# Altium schematic symbol library ADS1278IPAPT.Schlib: 1 symbol
Pins are listed as number, name and electrical type; pins without a type are passive.

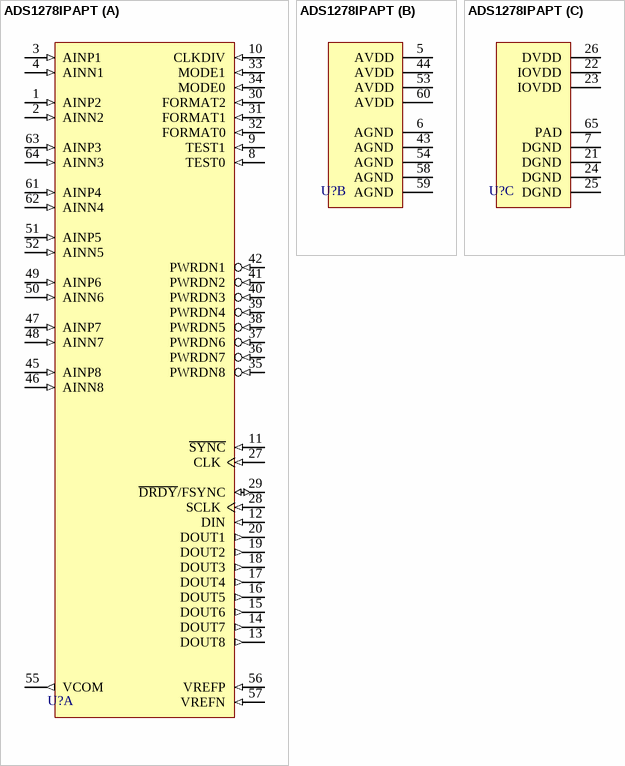
[diagram p0: symbol ADS1278IPAPT]

## ADS1278IPAPT
designator U?
part A pins: 1 AINP2 (in), 2 AINN2 (in), 3 AINP1 (in), 4 AINN1 (in), 8 TEST0 (in), 9 TEST1 (in), 10 CLKDIV (in), 11 ~{SYNC} (in), 12 DIN (in), 13 DOUT8 (out), 14 DOUT7 (out), 15 DOUT6 (out), 16 DOUT5 (out), 17 DOUT4 (out), 18 DOUT3 (out), 19 DOUT2 (out), 20 DOUT1 (out), 27 CLK (in), 28 SCLK (in), 29 ~{DRDY}/FSYNC (io), 30 FORMAT2 (in), 31 FORMAT1 (in), 32 FORMAT0 (in), 33 MODE1 (in), 34 MODE0 (in), 35 PWRDN8 (in), 36 PWRDN7 (in), 37 PWRDN6 (in), 38 PWRDN5 (in), 39 PWRDN4 (in), 40 PWRDN3 (in), 41 PWRDN2 (in), 42 PWRDN1 (in), 45 AINP8 (in), 46 AINN8 (in), 47 AINP7 (in), 48 AINN7 (in), 49 AINP6 (in), 50 AINN6 (in), 51 AINP5 (in), 52 AINN5 (in), 55 VCOM (out), 56 VREFP (in), 57 VREFN (in), 61 AINP4 (in), 62 AINN4 (in), 63 AINP3 (in), 64 AINN3 (in)
part B pins: 5 AVDD (power), 6 AGND (power), 43 AGND (power), 44 AVDD (power), 53 AVDD (power), 54 AGND (power), 58 AGND (power), 59 AGND (power), 60 AVDD (power)
part C pins: 7 DGND (power), 21 DGND (power), 22 IOVDD (power), 23 IOVDD (power), 24 DGND (power), 25 DGND (power), 26 DVDD (power), 65 PAD